# Altium footprint library LED Thru Hole.PcbLib: 2 footprints
Each footprint in its own frame and in the unit in brackets; x right, y up, seen from the top. Pads: shape width x height; smd on the part's side, far side on the other; paste and mask are expansions set on the pad; w line width, h text height; cw(c..) or ccw(c..) is an arc to the next point about the centre after c.
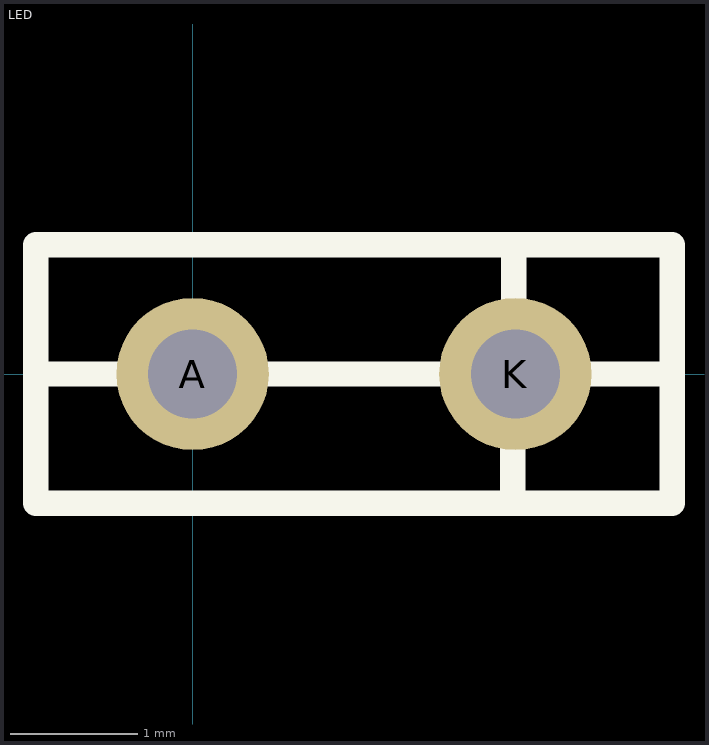
[diagram p0: the footprints below, top view; thin cyan lines are the x and y axes]

## LED [mm]
pads (2):
  round 1.2 hole 0.7: A(0,0) K(2.54,0)
Top Overlay:
  lines w0.2: -1.235,0 1.34,0 ; 1.2,0 3.775,0 ; 2.52,-1.016 2.528,1.016 ; 3.775,0 3.775,-1.016 -1.235,-1.016 -1.235,1.016 3.775,1.016 3.775,0

## PCBComponent_1 [mm]